# Altium footprint library QUAN.PcbLib: 216 footprints (part 5 of 14)
Each footprint in its own frame and in the unit in brackets; x right, y up, seen from the top. Pads: shape width x height; smd on the part's side, far side on the other; paste and mask are expansions set on the pad; w line width, h text height; cw(c..) or ccw(c..) is an arc to the next point about the centre after c.
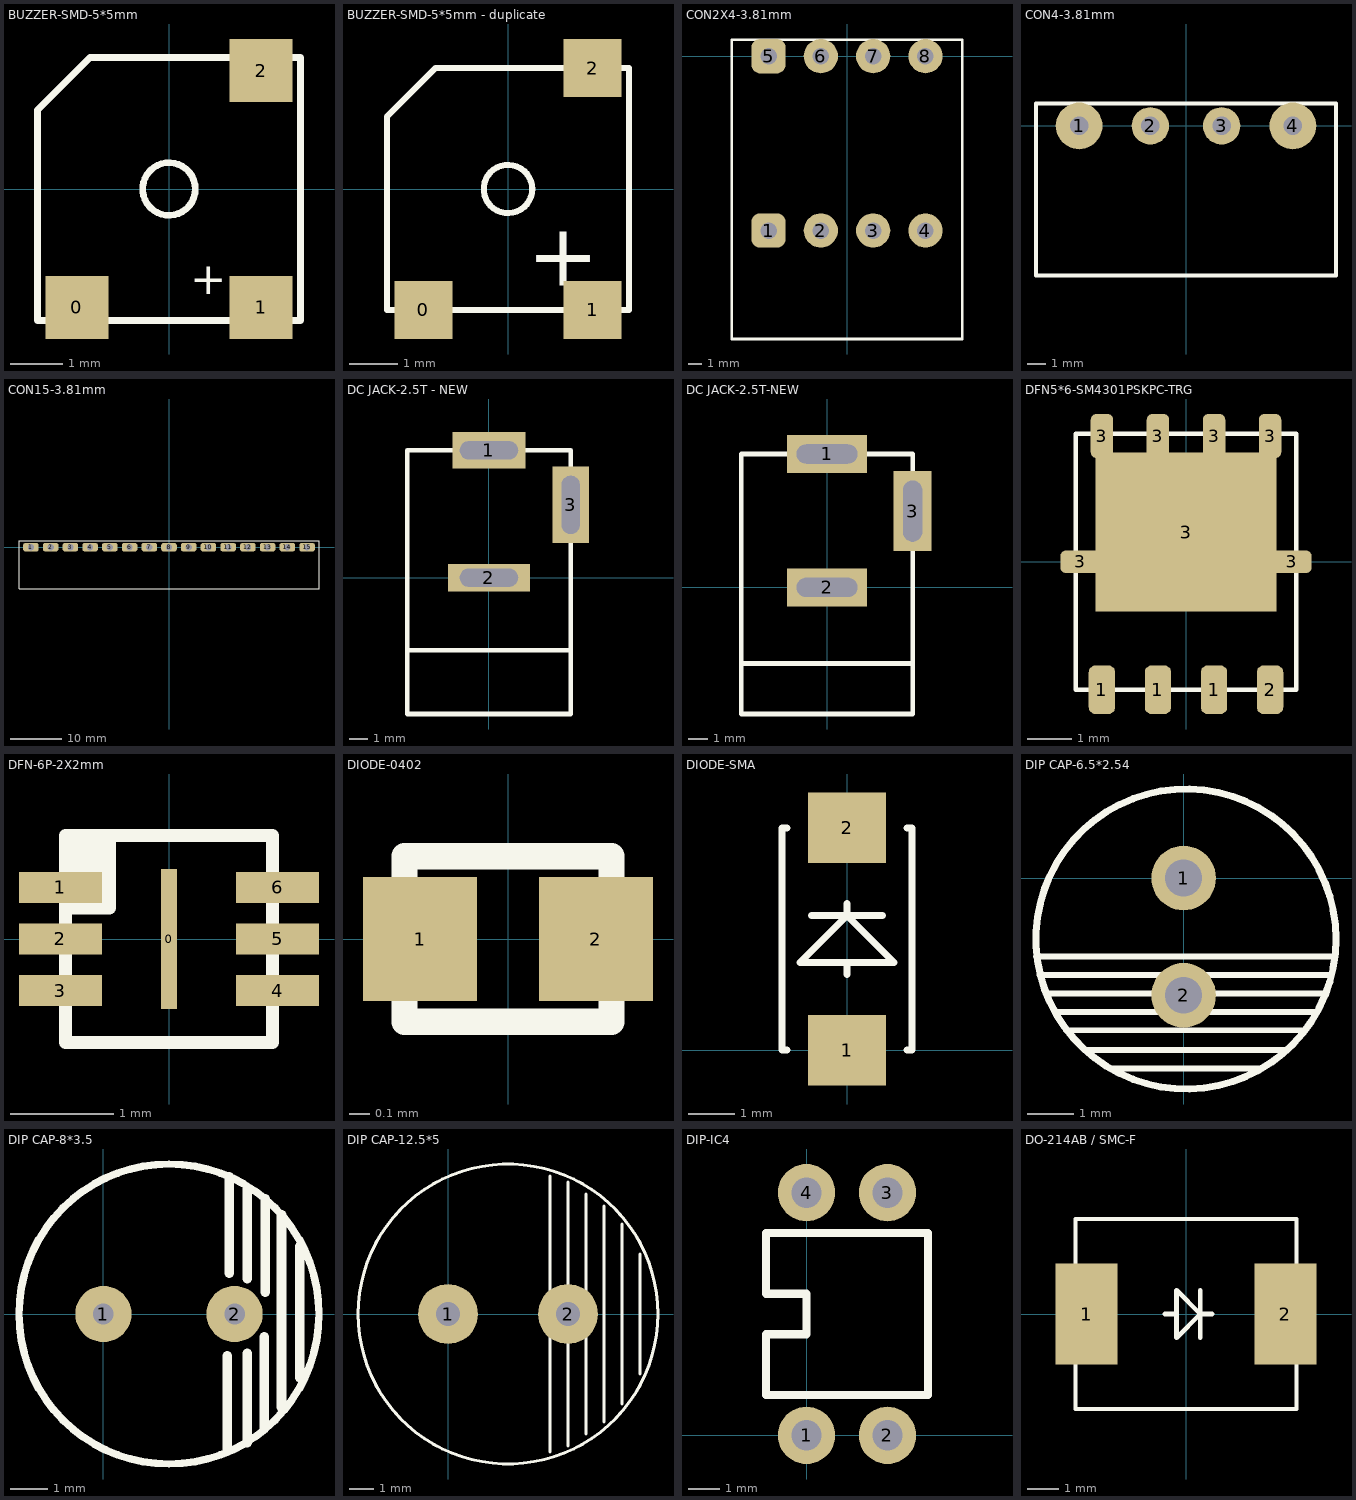
[diagram p4: the footprints below, top view; thin cyan lines are the x and y axes]

## BUZZER-SMD-5*5mm [mm] "BUZZER-SMD-5*5mm"
pads (3):
  rect 1.2x1.2 smd: 0(-1.75,-2.25) 1(1.75,-2.25) 2(1.75,2.25)
Top Overlay:
  circle w0.127: c0,0 r0.5
  lines w0.127: -2.5,-2.5 -2.5,1.5 -1.5,2.5 2.5,2.5 2.5,-2.5 -2.5,-2.5
  text "+" at 0.4,-2 h0.6

## BUZZER-SMD-5*5mm - duplicate [mm] "BUZZER-SMD-5*5mm"
pads (3):
  rect 1.2x1.2 smd: 0(-1.75,-2.5) 1(1.75,-2.5) 2(1.75,2.5)
Top Overlay:
  circle w0.127: c0,0 r0.5
  lines w0.127: -2.5,-2.5 2.5,-2.5 2.5,2.5 -1.5,2.5 -2.5,1.5 -2.5,-2.5
  text "+" at 0.4,-2 h1.3

## CON2X4-3.81mm [mm] "CON2X4-3.81mm"
pads (8):
  rrect50% 2.5x2.5 hole 1.2: 1(-5.715,-12.7) 5(-5.715,0)
  round 2.5 hole 1.2: 2(-1.905,-12.7) 3(1.905,-12.7) 4(5.715,-12.7) 6(-1.905,0) 7(1.905,0) 8(5.715,0)
Top Overlay:
  lines w0.2: -8.4,-20.6 8.4,-20.6 8.4,1.2 -8.4,1.2 -8.4,-20.6

## CON4-3.81mm [mm] "CON4-3.81mm"
pads (4):
  round 2.5 hole 1: 1(-5.715,0) 4(5.715,0)
  round 2 hole 1: 2(-1.905,0) 3(1.905,0)
Top Overlay:
  lines w0.2: -8.02,-8 8.02,-8 8.02,1.2 -8.02,1.2 -8.02,-8

## CON15-3.81mm [mm] "CON15-3.81mm"
pads (15):
  rrect50% 3x1.6 hole 1.2: 1(-26.67,0) 2(-22.86,0) 3(-19.05,0) 4(-15.24,0) 5(-11.43,0) 6(-7.62,0) 7(-3.81,0) 8(0,0) 9(3.81,0) 10(7.62,0) 11(11.43,0) 12(15.24,0) 13(19.05,0) 14(22.86,0) 15(26.67,0)
Top Overlay:
  lines w0.2: -28.975,-8 28.975,-8 28.975,1.2 -28.975,1.2 -28.975,-8

## DC JACK-2.5T - NEW [mm]
pads (3):
  rect 4x2 hole 1 slot 3.2 at 0 deg: 1(0,7)
  rect 4.5x1.5 hole 1 slot 3.2 at 0 deg: 2(0,0)
  rect 2x4.2 hole 1 slot 3.2 at 90 deg: 3(4.498,4.001)
Top Overlay:
  lines w0.254: -4.5,-4 4.5,-4 ; -4.5,-7.5 4.5,-7.5 4.5,7 -4.5,7 -4.5,-7.5

## DC JACK-2.5T-NEW [mm] "DC JACK-2.5T-NEW"
pads (3):
  rect 4.2x2 hole 1 slot 3.2 at 0 deg: 1(0,7) 2(0,0)
  rect 2x4.2 hole 1 slot 3.2 at 90 deg: 3(4.498,4.001)
Top Overlay:
  lines w0.254: -4.5,-4 4.5,-4 ; -4.5,-6.65 -4.5,7 4.5,7 4.5,-6.65 -4.5,-6.65

## DFN5*6-SM4301PSKPC-TRG [mm] "DFN5*6-SM4301PSKPC-TRG"
pads (11):
  rrect50% 0.6x1.1 smd: 1(-1.905,-2.9) 1(-0.635,-2.9) 1(0.635,-2.9) 2(1.905,-2.9)
  rrect50% 0.9x0.51 smd: 3(-2.4,0) 3(2.4,0)
  rrect50% 0.51x1 smd: 3(-1.905,2.85) 3(-0.635,2.85) 3(0.635,2.85) 3(1.905,2.85)
  rect 4.1x3.6 smd: 3(0,0.675)
Top Overlay:
  lines w0.1: -2.5,-2.9 -2.5,2.9 2.5,2.9 2.5,-2.9 -2.5,-2.9

## DFN-6P-2X2mm [mm] "DFN-6P-2X2mm"
pads (7):
  rect 0.15x1.35 smd mask+0.05: 0(0,0)
  rect 0.8x0.3 smd mask+0.05: 1(-1.05,0.5) 2(-1.05,0) 3(-1.05,-0.5) 4(1.05,-0.5) 5(1.05,0) 6(1.05,0.5)
Top Overlay:
  rectangle: -1,0.3 -0.575,1
  lines w0.127: -1,0.3 -0.575,0.3 -0.575,1 ; -1,-1 1,-1 1,1 -1,1 -1,-1

## DIODE-0402 [mm] "DIODE-0402"
pads (2):
  rect 0.55x0.6 smd mask+0.05: 1(-0.425,0) 2(0.425,0)
Top Overlay:
  lines w0.127: -0.5,-0.4 0.5,-0.4 0.5,0.4 -0.5,0.4 -0.5,-0.4

## DIODE-SMA [mm]
pads (2):
  rect 1.68x1.52 smd: 1(0,0) 2(0,4.8)
Top Overlay:
  lines w0.152: -1.3,0 -1.4,0 -1.4,4.8 -1.3,4.8 ; -0.762,2.908 0.762,2.908 ; 0,1.638 0,1.892 ; 0,3.162 0,2.908 ; 1.3,0 1.4,0 1.4,4.8 1.3,4.8 ; 0,2.908 1.016,1.892 -1.016,1.892 0,2.908

## DIP CAP-6.5*2.54 [mm]
pads (2):
  round 1.4 hole 0.8: 1(0,0) 2(0,-2.54)
Top Overlay:
  circle w0.152: c0.051,-1.321 r3.25
  lines w0.127: -3.199,-1.699 3.249,-1.699 ; -3.124,-2.099 3.174,-2.099 ; -2.974,-2.499 3.074,-2.499 ; -2.774,-2.899 2.874,-2.899 ; -2.549,-3.299 2.624,-3.299 ; -2.149,-3.724 2.224,-3.724 ; -1.574,-4.123 1.699,-4.123

## DIP CAP-8*3.5 [mm]
pads (2):
  round 1.5 hole 0.55: 1(0,0) 2(3.5,0)
Top Overlay:
  circle w0.2: c1.75,0 r4
  lines w0.254: 3.302,-3.658 3.302,-1.118 ; 3.353,1.092 3.353,3.658 ; 3.835,-3.429 3.835,-1.041 ; 3.835,0.94 3.835,3.327 ; 4.293,-3.048 4.293,-0.61 ; 4.318,0.584 4.318,3.073 ; 4.75,-2.489 4.75,2.642 ; 5.232,-1.702 5.232,1.803

## DIP CAP-12.5*5 [mm]
pads (2):
  round 2.5 hole 1: 1(0,0) 2(5,0)
Top Overlay:
  circle w0.127: c2.5,0 r6.25
  lines w0.127: 4.25,-5.75 4.25,5.75 ; 5,-5.5 5,5.5 ; 5.75,-5 5.75,5 ; 6.5,-4.5 6.5,4.5 ; 7.25,-3.75 7.25,3.75 ; 8,-2.5 8,2.5

## DIP-IC4 [mm]
pads (4):
  round 1.8 hole 0.95: 1(0,0) 2(2.54,0) 3(2.54,7.62) 4(0,7.62)
Top Overlay:
  lines w0.254: -1.27,1.27 -1.27,3.175 0,3.175 0,4.445 -1.27,4.445 -1.27,6.35 3.81,6.35 3.81,1.27 -1.27,1.27

## DO-214AB / SMC-F [mm] "DO-214AB / SMC-F"
pads (2):
  rect 2x3.25 smd: 1(-3.2,0) 2(3.2,0)
Top Overlay:
  lines w0.127: -3.55,-3.05 -3.55,3.05 3.55,3.05 3.55,-3.05 -3.55,-3.05
  lines w0.152: -0.685,0 -0.304,0 ; 0.458,-0.762 0.458,0.762 ; 0.839,0 0.458,0 ; 0.458,0 -0.304,0.762 -0.304,-0.762 0.458,0